# EAGLE library part SWITCH-2CH-6P (library OPL)
6P-2CH-2.54-L9.0*W3.5*H3.2+2.0MM:311010004;6P-2CH-2.54-L9.0*W3.5*H3.2-90D:311030004;6P-2CH-2.54-SMD-L7.0*W3.5*H1.5MM:311030005
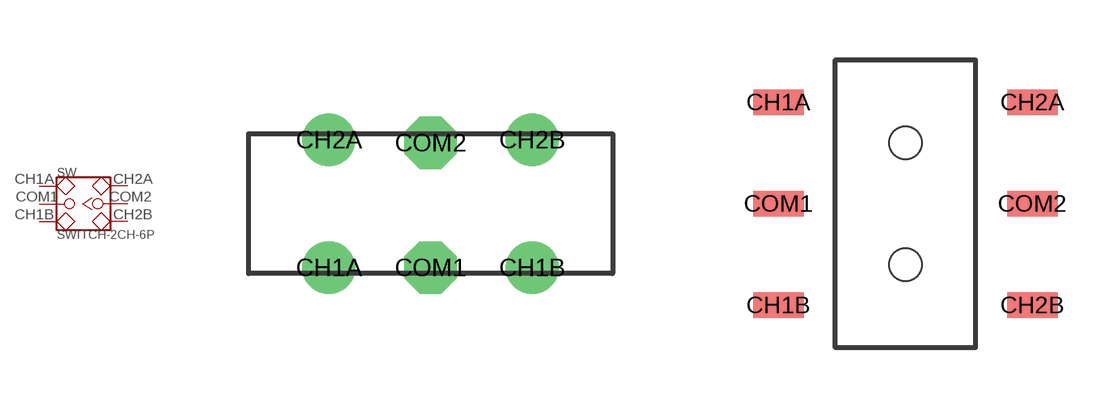
[diagram p24: symbol with the pads of 6P-2CH-2.54-L9.0XW3.5XH3.2+2.0MM; footprints 6P-2CH-2.54-L9.0XW3.5XH3.2+2.0MM, 6P-2CH-2.54-SMD-L7.0XW3.5XH1.5MM]

Designator prefix SW

## SWITCH-2CH-6P-MS-22D18  [6P-2CH-2.54-L9.0XW3.5XH3.2+2.0MM]
CH1A  CH1A
CH1B  CH1B
CH2A  CH2A
CH2B  CH2B
COM1  COM1
COM2  COM2

## SWITCH-2CH-6P-311030005  [6P-2CH-2.54-SMD-L7.0XW3.5XH1.5MM]
Pads as for 6P-2CH-2.54-L9.0XW3.5XH3.2+2.0MM

## SWITCH-2CH-6P-90D  [6P-2CH-2.54-L9.0XW3.5XH3.2-90D]
Pads as for 6P-2CH-2.54-L9.0XW3.5XH3.2+2.0MM

## Footprint 6P-2CH-2.54-L9.0XW3.5XH3.2+2.0MM (pad centres in mm)
drill 0.813 pad 1.27: CH1A -2.54,-1.6; CH1B 2.54,-1.6; CH2A -2.54,1.6; CH2B 2.54,1.6
drill 0.813 pad 1.27 octagon: COM1 0,-1.6; COM2 0,1.524

## Footprint 6P-2CH-2.54-SMD-L7.0XW3.5XH1.5MM (pad centres in mm)
smd 1.27 x 0.635: CH1A -3.175,2.54; CH1B -3.175,-2.54; CH2A 3.175,2.54; CH2B 3.175,-2.54; COM1 -3.175,0; COM2 3.175,0
hole 0.813 at 0,1.524
hole 0.813 at 0,-1.524

## Footprint 6P-2CH-2.54-L9.0XW3.5XH3.2-90D (pad centres in mm)
drill 0.813 pad 1.27: CH1A -2.54,-1.65; CH1B 2.54,-1.65; CH2A -2.54,1.65; CH2B 2.54,1.65
drill 0.813 pad 1.27 octagon: COM1 0,-1.65; COM2 0,1.65